# EAGLE library part 614008235023 (library WR-USB)
WR-USB Standard Connectors Characteristics Widely used Type-A and Type-B connectors, available in different orientation Various mount types: SMT, THT, THR Pin configuration: 4 pins for USB 2.0 / 9 pins for USB 3.x Durable and backward compatible with older USB versions UL, TID listing for USB standards Applications Office and desktop computing systems Industrial control and automation equipment Consumer electronics and peripherals Audio-visual and broadcast systems Details see: www.we-online.com/en/components/products/INPUT_OUTPUT_WR_USB_STANDARD Updated by Ella 2024-05-21 2024 (C) Würth Elektronik
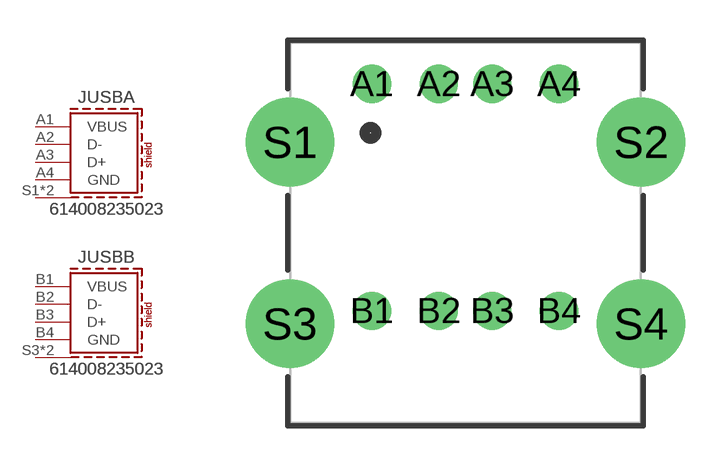
[diagram p35: symbol with the pads of 614008235023; footprint 614008235023]

Designator prefix J; gates USBA=USB2.0_TYPEA USBB=USB2.0_TYPEA

## 614008235023 (APPLICATION: USB 2.0; DATASHEET: https://www.we-online.com/redexpert/spec/614008235023?ae; GERDER: Receptacle; INTERFACE-TYPE: Type A; IR: 1.5 A; MOUNT: THT; PACKAGING: Tray; PART-NUMBER: 614008235023; PINS: 8pcs; TYPE: Stacked Vertical; VALUE: 614008235023; WORKING-VOLTAGE: 30 V (AC))  [614008235023]
A1  USBA:VBUS  pas
A2  USBA:D-  pas
A3  USBA:D+  pas
A4  USBA:GND  pas
B1  USBB:VBUS  pas
B2  USBB:D-  pas
B3  USBB:D+  pas
B4  USBB:GND  pas
S1  USBA:SHIELD  pas
S2  USBA:SHIELD  pas
S3  USBB:SHIELD  pas
S4  USBB:SHIELD  pas

## Footprint 614008235023 (pad centres in mm)
WR-USB Standard Connectors USB 2.0, Type A, Stacked Vertical THT, 8Pins
drill 0.92: A1 -3.5,5.58; A2 -1,5.58; A3 1,5.58; A4 3.5,5.58; B1 -3.5,-2.92; B2 -1,-2.92; B3 1,-2.92; B4 3.5,-2.92
drill 2.3: S1 -6.57,3.4; S2 6.57,3.4; S3 -6.57,-3.4; S4 6.57,-3.4